# Altium footprint library B3QFN-20.PcbLib: 1 footprints
Each footprint in its own frame and in the unit in brackets; x right, y up, seen from the top. Pads: shape width x height; smd on the part's side, far side on the other; paste and mask are expansions set on the pad; w line width, h text height; cw(c..) or ccw(c..) is an arc to the next point about the centre after c.
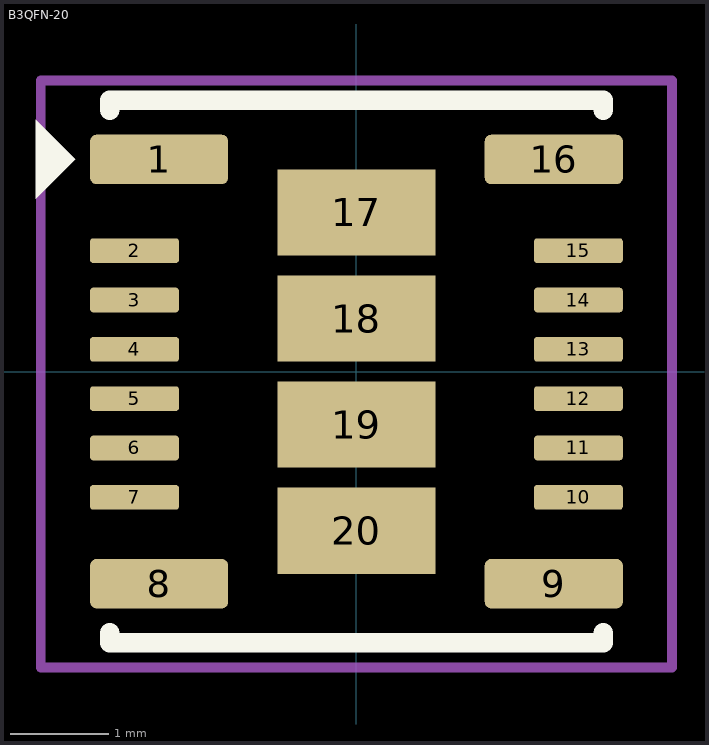
[diagram p0: the footprint, top view; thin cyan lines are the x and y axes]

## B3QFN-20 [mm]
pads (20):
  rrect25% 1.4x0.5 smd: 1(-2,2.15) 8(-2,-2.15) 9(2,-2.15) 16(2,2.15)
  rrect25% 0.9x0.25 smd: 2(-2.25,1.225) 3(-2.25,0.725) 4(-2.25,0.225) 5(-2.25,-0.275) 6(-2.25,-0.775) 7(-2.25,-1.275) 10(2.25,-1.275) 11(2.25,-0.775) 12(2.25,-0.275) 13(2.25,0.225) 14(2.25,0.725) 15(2.25,1.225)
  rect 1.6x0.875 smd: 17(0,1.613) 18(0,0.538) 19(0,-0.537) 20(0,-1.612)
Top Overlay:
  region: -3.25,1.75 -3.25,2.55 -2.85,2.15
  lines w0.2: -2.5,-2.65 -2.5,-2.75 2.5,-2.75 2.5,-2.65 ; -2.5,2.65 -2.5,2.75 2.5,2.75 2.5,2.65
Top Courtyard:
  lines w0.1: -3.2,-3 -2.5,-3 3.2,-3 3.2,2.95 -3.2,2.95 -3.2,-3
3D body "IC_TPSM63606SRDLR_B3QFN20.STEP": height 4.1, standoff 0, extent -2.5,-2.75 2.5,2.75